# Altium footprint library CSNL2512FT5L00.PcbLib: 3 footprints
Each footprint in its own frame and in the unit in brackets; x right, y up, seen from the top. Pads: shape width x height; smd on the part's side, far side on the other; paste and mask are expansions set on the pad; w line width, h text height; cw(c..) or ccw(c..) is an arc to the next point about the centre after c.
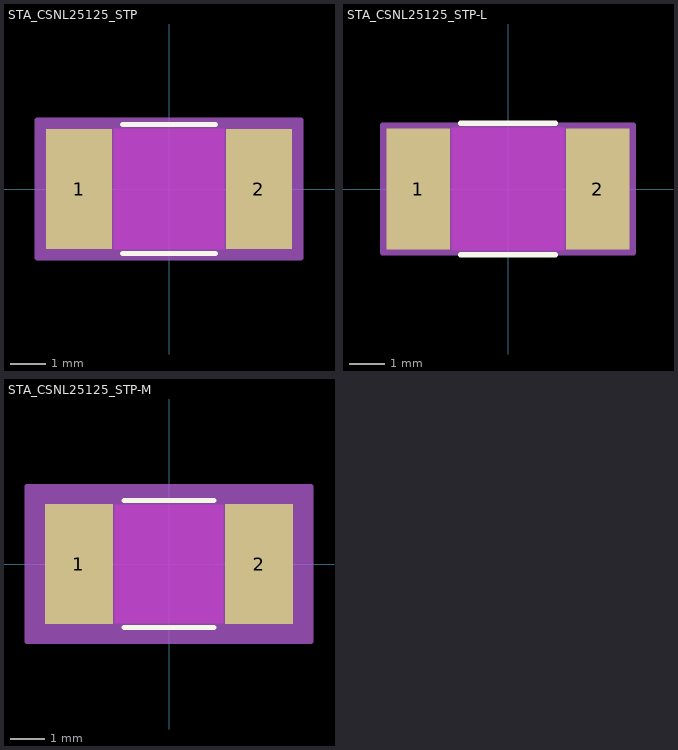
[diagram p0: the footprints below, top view; thin cyan lines are the x and y axes]

## STA_CSNL25125_STP [mil]
pads (2):
  rect 74x135 smd paste+0 mask+0: 1(-101,0) 2(101,0)
Top Layer keep-out:
  region: -62,-65.5 -62,65.5 62,65.5 62,-65.5
Top Overlay:
  lines w6: -51.89,-72.5 51.89,-72.5 ; -51.89,72.5 51.89,72.5
  text ".Designator" at -137.5,-25 h50
Keep-Out Layer:
  region: -62,-67.5 -62,67.5 62,67.5 62,-67.5
Mechanical 13:
  lines w1: -130,-67.5 -130,67.5 ; -130,-67.5 -64,-67.5 -64,67.5 -130,67.5 ; -130,-67.5 130,-67.5 ; -130,-67.5 -130,67.5 ; -130,67.5 130,67.5 ; 130,-67.5 64,-67.5 64,67.5 130,67.5 ; 130,-67.5 130,67.5 ; 130,-67.5 130,67.5
  text ".Designator" at -137.5,-25 h50
Mechanical 15:
  region: 148,-77.5 -148,-77.5 -148,77.5 148,77.5
  lines w6: -148,-77.5 -148,77.5 148,77.5 148,-77.5 -148,-77.5
3D body "STA_CSNL25125_STP.step": height 22.01, standoff 0, extent -130,-67.48 130,67.48

## STA_CSNL25125_STP-L [mil]
pads (2):
  rect 70x133 smd paste+0 mask+0: 1(-99,0) 2(99,0)
Top Layer keep-out:
  region: -62,-65.5 -62,65.5 62,65.5 62,-65.5
Top Overlay:
  lines w6: -52.35,-72.5 52.35,-72.5 ; -52.35,72.5 52.35,72.5
  text ".Designator" at -137.5,-25 h50
Keep-Out Layer:
  region: -62,-67.5 -62,67.5 62,67.5 62,-67.5
Mechanical 13:
  lines w1: -130,-67.5 -130,67.5 ; -130,-67.5 -64,-67.5 -64,67.5 -130,67.5 ; -130,-67.5 130,-67.5 ; -130,-67.5 -130,67.5 ; -130,67.5 130,67.5 ; 130,-67.5 64,-67.5 64,67.5 130,67.5 ; 130,-67.5 130,67.5 ; 130,-67.5 130,67.5
  text ".Designator" at -137.5,-25 h50
Mechanical 15:
  region: 138,-70.5 -138,-70.5 -138,70.5 138,70.5
  lines w6: -138,-70.5 -138,70.5 138,70.5 138,-70.5 -138,-70.5
3D body "STA_CSNL25125_STP.step": height 22.01, standoff 0, extent -130,-67.48 130,67.48

## STA_CSNL25125_STP-M [mil]
pads (2):
  rect 78x137 smd paste+0 mask+0: 1(-103,0) 2(103,0)
Top Layer keep-out:
  region: -62,-65.5 -62,65.5 62,65.5 62,-65.5
Top Overlay:
  lines w6: -51.53,-72.5 51.53,-72.5 ; -51.53,72.5 51.53,72.5
  text ".Designator" at -137.5,-25 h50
Keep-Out Layer:
  region: -62,-67.5 -62,67.5 62,67.5 62,-67.5
Mechanical 13:
  lines w1: -130,-67.5 -130,67.5 ; -130,-67.5 -64,-67.5 -64,67.5 -130,67.5 ; -130,-67.5 130,-67.5 ; -130,-67.5 -130,67.5 ; -130,67.5 130,67.5 ; 130,-67.5 64,-67.5 64,67.5 130,67.5 ; 130,-67.5 130,67.5 ; 130,-67.5 130,67.5
  text ".Designator" at -137.5,-25 h50
Mechanical 15:
  region: 162,-88.5 -162,-88.5 -162,88.5 162,88.5
  lines w6: -162,-88.5 -162,88.5 162,88.5 162,-88.5 -162,-88.5
3D body "STA_CSNL25125_STP.step": height 22.01, standoff 0, extent -130,-67.48 130,67.48